# Altium schematic symbol library Resistors.SchLib: 196 symbols (part 1 of 2)
Pins are listed as number, name and electrical type; pins without a type are passive.

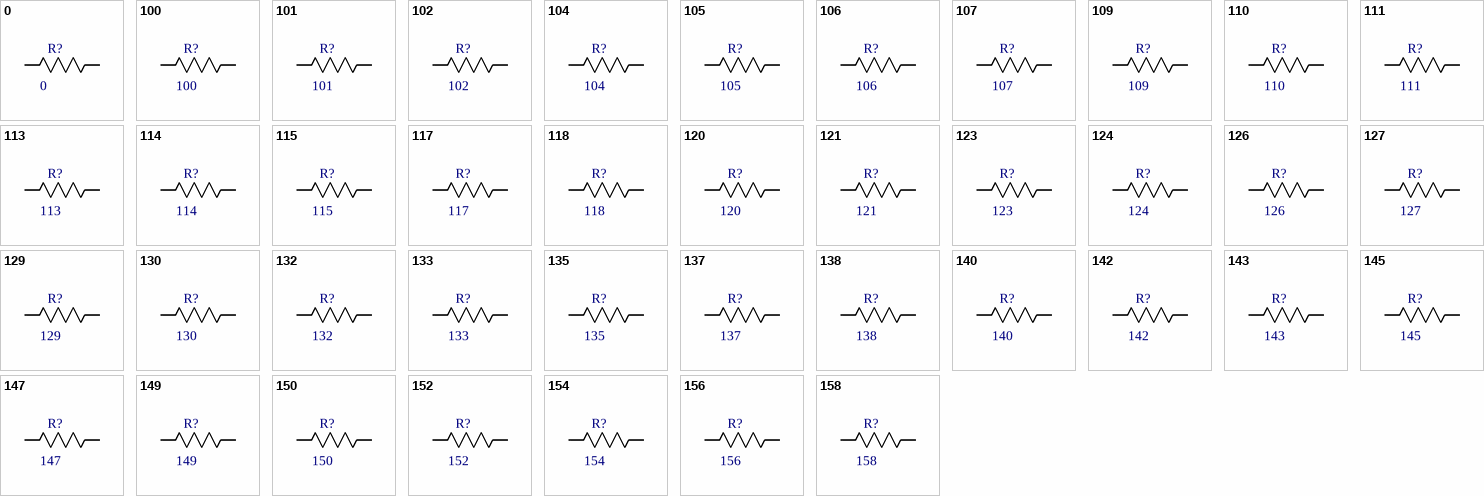
[diagram p0: symbols 0 to 158]

## 0
designator R?
Thick   Film   ChipResistors; Manufacturer_Part_Number: CRG0805F100K; Vendor: TE Connectivity; Built_By: EMA_UL_Team; SourceLibrary: Tyco_2012-01-31a; Tollerance: 1%; Power: 0.125W; RefDes: RefDes; Value: 0
footprint RES0805_CRG_TYCO_TYC
pins: 1, 2

## 100
designator R?, comment value 100  (hidden comment: 10)
Thick   Film   ChipResistors; Manufacturer_Part_Number: CRG0805F100K; Vendor: TE Connectivity; Built_By: EMA_UL_Team; SourceLibrary: Tyco_2012-01-31a; Tollerance: 1%; Power: 0.125W; RefDes: RefDes
footprint RES0805_CRG_TYCO_TYC
pins: 1, 2

## 101
designator R?, comment value 101  (hidden comment: 10)
Thick   Film   ChipResistors; Manufacturer_Part_Number: CRG0805F100K; Vendor: TE Connectivity; Built_By: EMA_UL_Team; SourceLibrary: Tyco_2012-01-31a; Tollerance: 1%; Power: 0.125W; RefDes: RefDes
footprint RES0805_CRG_TYCO_TYC
pins: 1, 2

## 102
designator R?, comment value 102  (hidden comment: 10)
Thick   Film   ChipResistors; Manufacturer_Part_Number: CRG0805F100K; Vendor: TE Connectivity; Built_By: EMA_UL_Team; SourceLibrary: Tyco_2012-01-31a; Tollerance: 1%; Power: 0.125W; RefDes: RefDes
footprint RES0805_CRG_TYCO_TYC
pins: 1, 2

## 104
designator R?, comment value 104  (hidden comment: 10)
Thick   Film   ChipResistors; Manufacturer_Part_Number: CRG0805F100K; Vendor: TE Connectivity; Built_By: EMA_UL_Team; SourceLibrary: Tyco_2012-01-31a; Tollerance: 1%; Power: 0.125W; RefDes: RefDes
footprint RES0805_CRG_TYCO_TYC
pins: 1, 2

## 105
designator R?, comment value 105  (hidden comment: 10)
Thick   Film   ChipResistors; Manufacturer_Part_Number: CRG0805F100K; Vendor: TE Connectivity; Built_By: EMA_UL_Team; SourceLibrary: Tyco_2012-01-31a; Tollerance: 1%; Power: 0.125W; RefDes: RefDes
footprint RES0805_CRG_TYCO_TYC
pins: 1, 2

## 106
designator R?, comment value 106  (hidden comment: 10)
Thick   Film   ChipResistors; Manufacturer_Part_Number: CRG0805F100K; Vendor: TE Connectivity; Built_By: EMA_UL_Team; SourceLibrary: Tyco_2012-01-31a; Tollerance: 1%; Power: 0.125W; RefDes: RefDes
footprint RES0805_CRG_TYCO_TYC
pins: 1, 2

## 107
designator R?, comment value 107  (hidden comment: 10)
Thick   Film   ChipResistors; Manufacturer_Part_Number: CRG0805F100K; Vendor: TE Connectivity; Built_By: EMA_UL_Team; SourceLibrary: Tyco_2012-01-31a; Tollerance: 1%; Power: 0.125W; RefDes: RefDes
footprint RES0805_CRG_TYCO_TYC
pins: 1, 2

## 109
designator R?, comment value 109  (hidden comment: 10)
Thick   Film   ChipResistors; Manufacturer_Part_Number: CRG0805F100K; Vendor: TE Connectivity; Built_By: EMA_UL_Team; SourceLibrary: Tyco_2012-01-31a; Tollerance: 1%; Power: 0.125W; RefDes: RefDes
footprint RES0805_CRG_TYCO_TYC
pins: 1, 2

## 110
designator R?, comment value 110  (hidden comment: 10)
Thick   Film   ChipResistors; Manufacturer_Part_Number: CRG0805F100K; Vendor: TE Connectivity; Built_By: EMA_UL_Team; SourceLibrary: Tyco_2012-01-31a; Tollerance: 1%; Power: 0.125W; RefDes: RefDes
footprint RES0805_CRG_TYCO_TYC
pins: 1, 2

## 111
designator R?, comment value 111  (hidden comment: 10)
Thick   Film   ChipResistors; Manufacturer_Part_Number: CRG0805F100K; Vendor: TE Connectivity; Built_By: EMA_UL_Team; SourceLibrary: Tyco_2012-01-31a; Tollerance: 1%; Power: 0.125W; RefDes: RefDes
footprint RES0805_CRG_TYCO_TYC
pins: 1, 2

## 113
designator R?, comment value 113  (hidden comment: 10)
Thick   Film   ChipResistors; Manufacturer_Part_Number: CRG0805F100K; Vendor: TE Connectivity; Built_By: EMA_UL_Team; SourceLibrary: Tyco_2012-01-31a; Tollerance: 1%; Power: 0.125W; RefDes: RefDes
footprint RES0805_CRG_TYCO_TYC
pins: 1, 2

## 114
designator R?, comment value 114  (hidden comment: 10)
Thick   Film   ChipResistors; Manufacturer_Part_Number: CRG0805F100K; Vendor: TE Connectivity; Built_By: EMA_UL_Team; SourceLibrary: Tyco_2012-01-31a; Tollerance: 1%; Power: 0.125W; RefDes: RefDes
footprint RES0805_CRG_TYCO_TYC
pins: 1, 2

## 115
designator R?, comment value 115  (hidden comment: 10)
Thick   Film   ChipResistors; Manufacturer_Part_Number: CRG0805F100K; Vendor: TE Connectivity; Built_By: EMA_UL_Team; SourceLibrary: Tyco_2012-01-31a; Tollerance: 1%; Power: 0.125W; RefDes: RefDes
footprint RES0805_CRG_TYCO_TYC
pins: 1, 2

## 117
designator R?, comment value 117  (hidden comment: 10)
Thick   Film   ChipResistors; Manufacturer_Part_Number: CRG0805F100K; Vendor: TE Connectivity; Built_By: EMA_UL_Team; SourceLibrary: Tyco_2012-01-31a; Tollerance: 1%; Power: 0.125W; RefDes: RefDes
footprint RES0805_CRG_TYCO_TYC
pins: 1, 2

## 118
designator R?, comment value 118  (hidden comment: 10)
Thick   Film   ChipResistors; Manufacturer_Part_Number: CRG0805F100K; Vendor: TE Connectivity; Built_By: EMA_UL_Team; SourceLibrary: Tyco_2012-01-31a; Tollerance: 1%; Power: 0.125W; RefDes: RefDes
footprint RES0805_CRG_TYCO_TYC
pins: 1, 2

## 120
designator R?, comment value 120  (hidden comment: 10)
Thick   Film   ChipResistors; Manufacturer_Part_Number: CRG0805F100K; Vendor: TE Connectivity; Built_By: EMA_UL_Team; SourceLibrary: Tyco_2012-01-31a; Tollerance: 1%; Power: 0.125W; RefDes: RefDes
footprint RES0805_CRG_TYCO_TYC
pins: 1, 2

## 121
designator R?, comment value 121  (hidden comment: 10)
Thick   Film   ChipResistors; Manufacturer_Part_Number: CRG0805F100K; Vendor: TE Connectivity; Built_By: EMA_UL_Team; SourceLibrary: Tyco_2012-01-31a; Tollerance: 1%; Power: 0.125W; RefDes: RefDes
footprint RES0805_CRG_TYCO_TYC
pins: 1, 2

## 123
designator R?, comment value 123  (hidden comment: 10)
Thick   Film   ChipResistors; Manufacturer_Part_Number: CRG0805F100K; Vendor: TE Connectivity; Built_By: EMA_UL_Team; SourceLibrary: Tyco_2012-01-31a; Tollerance: 1%; Power: 0.125W; RefDes: RefDes
footprint RES0805_CRG_TYCO_TYC
pins: 1, 2

## 124
designator R?, comment value 124  (hidden comment: 10)
Thick   Film   ChipResistors; Manufacturer_Part_Number: CRG0805F100K; Vendor: TE Connectivity; Built_By: EMA_UL_Team; SourceLibrary: Tyco_2012-01-31a; Tollerance: 1%; Power: 0.125W; RefDes: RefDes
footprint RES0805_CRG_TYCO_TYC
pins: 1, 2

## 126
designator R?, comment value 126  (hidden comment: 10)
Thick   Film   ChipResistors; Manufacturer_Part_Number: CRG0805F100K; Vendor: TE Connectivity; Built_By: EMA_UL_Team; SourceLibrary: Tyco_2012-01-31a; Tollerance: 1%; Power: 0.125W; RefDes: RefDes
footprint RES0805_CRG_TYCO_TYC
pins: 1, 2

## 127
designator R?, comment value 127  (hidden comment: 10)
Thick   Film   ChipResistors; Manufacturer_Part_Number: CRG0805F100K; Vendor: TE Connectivity; Built_By: EMA_UL_Team; SourceLibrary: Tyco_2012-01-31a; Tollerance: 1%; Power: 0.125W; RefDes: RefDes
footprint RES0805_CRG_TYCO_TYC
pins: 1, 2

## 129
designator R?, comment value 129  (hidden comment: 10)
Thick   Film   ChipResistors; Manufacturer_Part_Number: CRG0805F100K; Vendor: TE Connectivity; Built_By: EMA_UL_Team; SourceLibrary: Tyco_2012-01-31a; Tollerance: 1%; Power: 0.125W; RefDes: RefDes
footprint RES0805_CRG_TYCO_TYC
pins: 1, 2

## 130
designator R?, comment value 130  (hidden comment: 10)
Thick   Film   ChipResistors; Manufacturer_Part_Number: CRG0805F100K; Vendor: TE Connectivity; Built_By: EMA_UL_Team; SourceLibrary: Tyco_2012-01-31a; Tollerance: 1%; Power: 0.125W; RefDes: RefDes
footprint RES0805_CRG_TYCO_TYC
pins: 1, 2

## 132
designator R?, comment value 132  (hidden comment: 10)
Thick   Film   ChipResistors; Manufacturer_Part_Number: CRG0805F100K; Vendor: TE Connectivity; Built_By: EMA_UL_Team; SourceLibrary: Tyco_2012-01-31a; Tollerance: 1%; Power: 0.125W; RefDes: RefDes
footprint RES0805_CRG_TYCO_TYC
pins: 1, 2

## 133
designator R?, comment value 133  (hidden comment: 10)
Thick   Film   ChipResistors; Manufacturer_Part_Number: CRG0805F100K; Vendor: TE Connectivity; Built_By: EMA_UL_Team; SourceLibrary: Tyco_2012-01-31a; Tollerance: 1%; Power: 0.125W; RefDes: RefDes
footprint RES0805_CRG_TYCO_TYC
pins: 1, 2

## 135
designator R?, comment value 135  (hidden comment: 10)
Thick   Film   ChipResistors; Manufacturer_Part_Number: CRG0805F100K; Vendor: TE Connectivity; Built_By: EMA_UL_Team; SourceLibrary: Tyco_2012-01-31a; Tollerance: 1%; Power: 0.125W; RefDes: RefDes
footprint RES0805_CRG_TYCO_TYC
pins: 1, 2

## 137
designator R?, comment value 137  (hidden comment: 10)
Thick   Film   ChipResistors; Manufacturer_Part_Number: CRG0805F100K; Vendor: TE Connectivity; Built_By: EMA_UL_Team; SourceLibrary: Tyco_2012-01-31a; Tollerance: 1%; Power: 0.125W; RefDes: RefDes
footprint RES0805_CRG_TYCO_TYC
pins: 1, 2

## 138
designator R?, comment value 138  (hidden comment: 10)
Thick   Film   ChipResistors; Manufacturer_Part_Number: CRG0805F100K; Vendor: TE Connectivity; Built_By: EMA_UL_Team; SourceLibrary: Tyco_2012-01-31a; Tollerance: 1%; Power: 0.125W; RefDes: RefDes
footprint RES0805_CRG_TYCO_TYC
pins: 1, 2

## 140
designator R?, comment value 140  (hidden comment: 10)
Thick   Film   ChipResistors; Manufacturer_Part_Number: CRG0805F100K; Vendor: TE Connectivity; Built_By: EMA_UL_Team; SourceLibrary: Tyco_2012-01-31a; Tollerance: 1%; Power: 0.125W; RefDes: RefDes
footprint RES0805_CRG_TYCO_TYC
pins: 1, 2

## 142
designator R?, comment value 142  (hidden comment: 10)
Thick   Film   ChipResistors; Manufacturer_Part_Number: CRG0805F100K; Vendor: TE Connectivity; Built_By: EMA_UL_Team; SourceLibrary: Tyco_2012-01-31a; Tollerance: 1%; Power: 0.125W; RefDes: RefDes
footprint RES0805_CRG_TYCO_TYC
pins: 1, 2

## 143
designator R?, comment value 143  (hidden comment: 10)
Thick   Film   ChipResistors; Manufacturer_Part_Number: CRG0805F100K; Vendor: TE Connectivity; Built_By: EMA_UL_Team; SourceLibrary: Tyco_2012-01-31a; Tollerance: 1%; Power: 0.125W; RefDes: RefDes
footprint RES0805_CRG_TYCO_TYC
pins: 1, 2

## 145
designator R?, comment value 145  (hidden comment: 10)
Thick   Film   ChipResistors; Manufacturer_Part_Number: CRG0805F100K; Vendor: TE Connectivity; Built_By: EMA_UL_Team; SourceLibrary: Tyco_2012-01-31a; Tollerance: 1%; Power: 0.125W; RefDes: RefDes
footprint RES0805_CRG_TYCO_TYC
pins: 1, 2

## 147
designator R?, comment value 147  (hidden comment: 10)
Thick   Film   ChipResistors; Manufacturer_Part_Number: CRG0805F100K; Vendor: TE Connectivity; Built_By: EMA_UL_Team; SourceLibrary: Tyco_2012-01-31a; Tollerance: 1%; Power: 0.125W; RefDes: RefDes
footprint RES0805_CRG_TYCO_TYC
pins: 1, 2

## 149
designator R?, comment value 149  (hidden comment: 10)
Thick   Film   ChipResistors; Manufacturer_Part_Number: CRG0805F100K; Vendor: TE Connectivity; Built_By: EMA_UL_Team; SourceLibrary: Tyco_2012-01-31a; Tollerance: 1%; Power: 0.125W; RefDes: RefDes
footprint RES0805_CRG_TYCO_TYC
pins: 1, 2

## 150
designator R?, comment value 150  (hidden comment: 10)
Thick   Film   ChipResistors; Manufacturer_Part_Number: CRG0805F100K; Vendor: TE Connectivity; Built_By: EMA_UL_Team; SourceLibrary: Tyco_2012-01-31a; Tollerance: 1%; Power: 0.125W; RefDes: RefDes
footprint RES0805_CRG_TYCO_TYC
pins: 1, 2

## 152
designator R?, comment value 152  (hidden comment: 10)
Thick   Film   ChipResistors; Manufacturer_Part_Number: CRG0805F100K; Vendor: TE Connectivity; Built_By: EMA_UL_Team; SourceLibrary: Tyco_2012-01-31a; Tollerance: 1%; Power: 0.125W; RefDes: RefDes
footprint RES0805_CRG_TYCO_TYC
pins: 1, 2

## 154
designator R?, comment value 154  (hidden comment: 10)
Thick   Film   ChipResistors; Manufacturer_Part_Number: CRG0805F100K; Vendor: TE Connectivity; Built_By: EMA_UL_Team; SourceLibrary: Tyco_2012-01-31a; Tollerance: 1%; Power: 0.125W; RefDes: RefDes
footprint RES0805_CRG_TYCO_TYC
pins: 1, 2

## 156
designator R?, comment value 156  (hidden comment: 10)
Thick   Film   ChipResistors; Manufacturer_Part_Number: CRG0805F100K; Vendor: TE Connectivity; Built_By: EMA_UL_Team; SourceLibrary: Tyco_2012-01-31a; Tollerance: 1%; Power: 0.125W; RefDes: RefDes
footprint RES0805_CRG_TYCO_TYC
pins: 1, 2

## 158
designator R?, comment value 158  (hidden comment: 10)
Thick   Film   ChipResistors; Manufacturer_Part_Number: CRG0805F100K; Vendor: TE Connectivity; Built_By: EMA_UL_Team; SourceLibrary: Tyco_2012-01-31a; Tollerance: 1%; Power: 0.125W; RefDes: RefDes
footprint RES0805_CRG_TYCO_TYC
pins: 1, 2

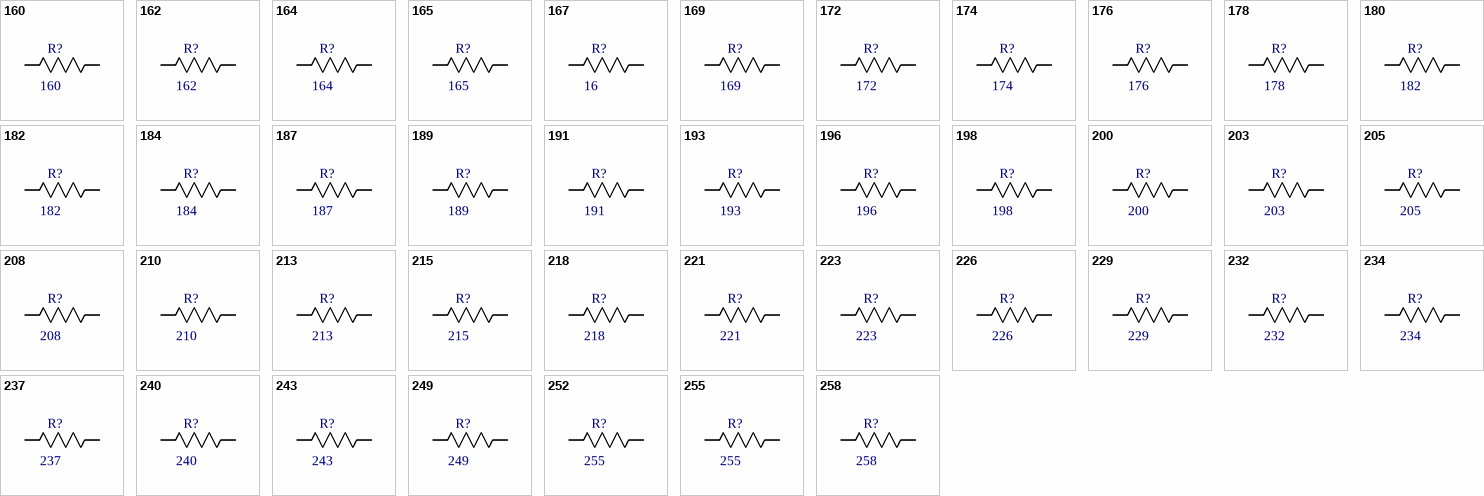
[diagram p1: symbols 160 to 258]

## 160
designator R?, comment value 160  (hidden comment: 10)
Thick   Film   ChipResistors; Manufacturer_Part_Number: CRG0805F100K; Vendor: TE Connectivity; Built_By: EMA_UL_Team; SourceLibrary: Tyco_2012-01-31a; Tollerance: 1%; Power: 0.125W; RefDes: RefDes
footprint RES0805_CRG_TYCO_TYC
pins: 1, 2

## 162
designator R?, comment value 162  (hidden comment: 10)
Thick   Film   ChipResistors; Manufacturer_Part_Number: CRG0805F100K; Vendor: TE Connectivity; Built_By: EMA_UL_Team; SourceLibrary: Tyco_2012-01-31a; Tollerance: 1%; Power: 0.125W; RefDes: RefDes
footprint RES0805_CRG_TYCO_TYC
pins: 1, 2

## 164
designator R?, comment value 164  (hidden comment: 10)
Thick   Film   ChipResistors; Manufacturer_Part_Number: CRG0805F100K; Vendor: TE Connectivity; Built_By: EMA_UL_Team; SourceLibrary: Tyco_2012-01-31a; Tollerance: 1%; Power: 0.125W; RefDes: RefDes
footprint RES0805_CRG_TYCO_TYC
pins: 1, 2

## 165
designator R?, comment value 165  (hidden comment: 10)
Thick   Film   ChipResistors; Manufacturer_Part_Number: CRG0805F100K; Vendor: TE Connectivity; Built_By: EMA_UL_Team; SourceLibrary: Tyco_2012-01-31a; Tollerance: 1%; Power: 0.125W; RefDes: RefDes
footprint RES0805_CRG_TYCO_TYC
pins: 1, 2

## 167
designator R?, comment value 16  (hidden comment: 10)
Thick   Film   ChipResistors; Manufacturer_Part_Number: CRG0805F100K; Vendor: TE Connectivity; Built_By: EMA_UL_Team; SourceLibrary: Tyco_2012-01-31a; Tollerance: 1%; Power: 0.125W; RefDes: RefDes
footprint RES0805_CRG_TYCO_TYC
pins: 1, 2

## 169
designator R?, comment value 169  (hidden comment: 10)
Thick   Film   ChipResistors; Manufacturer_Part_Number: CRG0805F100K; Vendor: TE Connectivity; Built_By: EMA_UL_Team; SourceLibrary: Tyco_2012-01-31a; Tollerance: 1%; Power: 0.125W; RefDes: RefDes
footprint RES0805_CRG_TYCO_TYC
pins: 1, 2

## 172
designator R?, comment value 172  (hidden comment: 10)
Thick   Film   ChipResistors; Manufacturer_Part_Number: CRG0805F100K; Vendor: TE Connectivity; Built_By: EMA_UL_Team; SourceLibrary: Tyco_2012-01-31a; Tollerance: 1%; Power: 0.125W; RefDes: RefDes
footprint RES0805_CRG_TYCO_TYC
pins: 1, 2

## 174
designator R?, comment value 174  (hidden comment: 10)
Thick   Film   ChipResistors; Manufacturer_Part_Number: CRG0805F100K; Vendor: TE Connectivity; Built_By: EMA_UL_Team; SourceLibrary: Tyco_2012-01-31a; Tollerance: 1%; Power: 0.125W; RefDes: RefDes
footprint RES0805_CRG_TYCO_TYC
pins: 1, 2

## 176
designator R?, comment value 176  (hidden comment: 10)
Thick   Film   ChipResistors; Manufacturer_Part_Number: CRG0805F100K; Vendor: TE Connectivity; Built_By: EMA_UL_Team; SourceLibrary: Tyco_2012-01-31a; Tollerance: 1%; Power: 0.125W; RefDes: RefDes
footprint RES0805_CRG_TYCO_TYC
pins: 1, 2

## 178
designator R?, comment value 178  (hidden comment: 10)
Thick   Film   ChipResistors; Manufacturer_Part_Number: CRG0805F100K; Vendor: TE Connectivity; Built_By: EMA_UL_Team; SourceLibrary: Tyco_2012-01-31a; Tollerance: 1%; Power: 0.125W; RefDes: RefDes
footprint RES0805_CRG_TYCO_TYC
pins: 1, 2

## 180
designator R?, comment value 182  (hidden comment: 10)
Thick   Film   ChipResistors; Manufacturer_Part_Number: CRG0805F100K; Vendor: TE Connectivity; Built_By: EMA_UL_Team; SourceLibrary: Tyco_2012-01-31a; Tollerance: 1%; Power: 0.125W; RefDes: RefDes
footprint RES0805_CRG_TYCO_TYC
pins: 1, 2

## 182
designator R?, comment value 182  (hidden comment: 10)
Thick   Film   ChipResistors; Manufacturer_Part_Number: CRG0805F100K; Vendor: TE Connectivity; Built_By: EMA_UL_Team; SourceLibrary: Tyco_2012-01-31a; Tollerance: 1%; Power: 0.125W; RefDes: RefDes
footprint RES0805_CRG_TYCO_TYC
pins: 1, 2

## 184
designator R?, comment value 184  (hidden comment: 10)
Thick   Film   ChipResistors; Manufacturer_Part_Number: CRG0805F100K; Vendor: TE Connectivity; Built_By: EMA_UL_Team; SourceLibrary: Tyco_2012-01-31a; Tollerance: 1%; Power: 0.125W; RefDes: RefDes
footprint RES0805_CRG_TYCO_TYC
pins: 1, 2

## 187
designator R?, comment value 187  (hidden comment: 10)
Thick   Film   ChipResistors; Manufacturer_Part_Number: CRG0805F100K; Vendor: TE Connectivity; Built_By: EMA_UL_Team; SourceLibrary: Tyco_2012-01-31a; Tollerance: 1%; Power: 0.125W; RefDes: RefDes
footprint RES0805_CRG_TYCO_TYC
pins: 1, 2

## 189
designator R?, comment value 189  (hidden comment: 10)
Thick   Film   ChipResistors; Manufacturer_Part_Number: CRG0805F100K; Vendor: TE Connectivity; Built_By: EMA_UL_Team; SourceLibrary: Tyco_2012-01-31a; Tollerance: 1%; Power: 0.125W; RefDes: RefDes
footprint RES0805_CRG_TYCO_TYC
pins: 1, 2

## 191
designator R?, comment value 191  (hidden comment: 10)
Thick   Film   ChipResistors; Manufacturer_Part_Number: CRG0805F100K; Vendor: TE Connectivity; Built_By: EMA_UL_Team; SourceLibrary: Tyco_2012-01-31a; Tollerance: 1%; Power: 0.125W; RefDes: RefDes
footprint RES0805_CRG_TYCO_TYC
pins: 1, 2

## 193
designator R?, comment value 193  (hidden comment: 10)
Thick   Film   ChipResistors; Manufacturer_Part_Number: CRG0805F100K; Vendor: TE Connectivity; Built_By: EMA_UL_Team; SourceLibrary: Tyco_2012-01-31a; Tollerance: 1%; Power: 0.125W; RefDes: RefDes
footprint RES0805_CRG_TYCO_TYC
pins: 1, 2

## 196
designator R?, comment value 196  (hidden comment: 10)
Thick   Film   ChipResistors; Manufacturer_Part_Number: CRG0805F100K; Vendor: TE Connectivity; Built_By: EMA_UL_Team; SourceLibrary: Tyco_2012-01-31a; Tollerance: 1%; Power: 0.125W; RefDes: RefDes
footprint RES0805_CRG_TYCO_TYC
pins: 1, 2

## 198
designator R?, comment value 198  (hidden comment: 10)
Thick   Film   ChipResistors; Manufacturer_Part_Number: CRG0805F100K; Vendor: TE Connectivity; Built_By: EMA_UL_Team; SourceLibrary: Tyco_2012-01-31a; Tollerance: 1%; Power: 0.125W; RefDes: RefDes
footprint RES0805_CRG_TYCO_TYC
pins: 1, 2

## 200
designator R?, comment value 200  (hidden comment: 10)
Thick   Film   ChipResistors; Manufacturer_Part_Number: CRG0805F100K; Vendor: TE Connectivity; Built_By: EMA_UL_Team; SourceLibrary: Tyco_2012-01-31a; Tollerance: 1%; Power: 0.125W; RefDes: RefDes
footprint RES0805_CRG_TYCO_TYC
pins: 1, 2

## 203
designator R?, comment value 203  (hidden comment: 10)
Thick   Film   ChipResistors; Manufacturer_Part_Number: CRG0805F100K; Vendor: TE Connectivity; Built_By: EMA_UL_Team; SourceLibrary: Tyco_2012-01-31a; Tollerance: 1%; Power: 0.125W; RefDes: RefDes
footprint RES0805_CRG_TYCO_TYC
pins: 1, 2

## 205
designator R?, comment value 205  (hidden comment: 10)
Thick   Film   ChipResistors; Manufacturer_Part_Number: CRG0805F100K; Vendor: TE Connectivity; Built_By: EMA_UL_Team; SourceLibrary: Tyco_2012-01-31a; Tollerance: 1%; Power: 0.125W; RefDes: RefDes
footprint RES0805_CRG_TYCO_TYC
pins: 1, 2

## 208
designator R?, comment value 208  (hidden comment: 10)
Thick   Film   ChipResistors; Manufacturer_Part_Number: CRG0805F100K; Vendor: TE Connectivity; Built_By: EMA_UL_Team; SourceLibrary: Tyco_2012-01-31a; Tollerance: 1%; Power: 0.125W; RefDes: RefDes
footprint RES0805_CRG_TYCO_TYC
pins: 1, 2

## 210
designator R?, comment value 210  (hidden comment: 10)
Thick   Film   ChipResistors; Manufacturer_Part_Number: CRG0805F100K; Vendor: TE Connectivity; Built_By: EMA_UL_Team; SourceLibrary: Tyco_2012-01-31a; Tollerance: 1%; Power: 0.125W; RefDes: RefDes
footprint RES0805_CRG_TYCO_TYC
pins: 1, 2

## 213
designator R?, comment value 213  (hidden comment: 10)
Thick   Film   ChipResistors; Manufacturer_Part_Number: CRG0805F100K; Vendor: TE Connectivity; Built_By: EMA_UL_Team; SourceLibrary: Tyco_2012-01-31a; Tollerance: 1%; Power: 0.125W; RefDes: RefDes
footprint RES0805_CRG_TYCO_TYC
pins: 1, 2

## 215
designator R?, comment value 215  (hidden comment: 10)
Thick   Film   ChipResistors; Manufacturer_Part_Number: CRG0805F100K; Vendor: TE Connectivity; Built_By: EMA_UL_Team; SourceLibrary: Tyco_2012-01-31a; Tollerance: 1%; Power: 0.125W; RefDes: RefDes
footprint RES0805_CRG_TYCO_TYC
pins: 1, 2

## 218
designator R?, comment value 218  (hidden comment: 10)
Thick   Film   ChipResistors; Manufacturer_Part_Number: CRG0805F100K; Vendor: TE Connectivity; Built_By: EMA_UL_Team; SourceLibrary: Tyco_2012-01-31a; Tollerance: 1%; Power: 0.125W; RefDes: RefDes
footprint RES0805_CRG_TYCO_TYC
pins: 1, 2

## 221
designator R?, comment value 221  (hidden comment: 10)
Thick   Film   ChipResistors; Manufacturer_Part_Number: CRG0805F100K; Vendor: TE Connectivity; Built_By: EMA_UL_Team; SourceLibrary: Tyco_2012-01-31a; Tollerance: 1%; Power: 0.125W; RefDes: RefDes
footprint RES0805_CRG_TYCO_TYC
pins: 1, 2

## 223
designator R?, comment value 223  (hidden comment: 10)
Thick   Film   ChipResistors; Manufacturer_Part_Number: CRG0805F100K; Vendor: TE Connectivity; Built_By: EMA_UL_Team; SourceLibrary: Tyco_2012-01-31a; Tollerance: 1%; Power: 0.125W; RefDes: RefDes
footprint RES0805_CRG_TYCO_TYC
pins: 1, 2

## 226
designator R?, comment value 226  (hidden comment: 10)
Thick   Film   ChipResistors; Manufacturer_Part_Number: CRG0805F100K; Vendor: TE Connectivity; Built_By: EMA_UL_Team; SourceLibrary: Tyco_2012-01-31a; Tollerance: 1%; Power: 0.125W; RefDes: RefDes
footprint RES0805_CRG_TYCO_TYC
pins: 1, 2

## 229
designator R?, comment value 229  (hidden comment: 10)
Thick   Film   ChipResistors; Manufacturer_Part_Number: CRG0805F100K; Vendor: TE Connectivity; Built_By: EMA_UL_Team; SourceLibrary: Tyco_2012-01-31a; Tollerance: 1%; Power: 0.125W; RefDes: RefDes
footprint RES0805_CRG_TYCO_TYC
pins: 1, 2

## 232
designator R?, comment value 232  (hidden comment: 10)
Thick   Film   ChipResistors; Manufacturer_Part_Number: CRG0805F100K; Vendor: TE Connectivity; Built_By: EMA_UL_Team; SourceLibrary: Tyco_2012-01-31a; Tollerance: 1%; Power: 0.125W; RefDes: RefDes
footprint RES0805_CRG_TYCO_TYC
pins: 1, 2

## 234
designator R?, comment value 234  (hidden comment: 10)
Thick   Film   ChipResistors; Manufacturer_Part_Number: CRG0805F100K; Vendor: TE Connectivity; Built_By: EMA_UL_Team; SourceLibrary: Tyco_2012-01-31a; Tollerance: 1%; Power: 0.125W; RefDes: RefDes
footprint RES0805_CRG_TYCO_TYC
pins: 1, 2

## 237
designator R?, comment value 237  (hidden comment: 10)
Thick   Film   ChipResistors; Manufacturer_Part_Number: CRG0805F100K; Vendor: TE Connectivity; Built_By: EMA_UL_Team; SourceLibrary: Tyco_2012-01-31a; Tollerance: 1%; Power: 0.125W; RefDes: RefDes
footprint RES0805_CRG_TYCO_TYC
pins: 1, 2

## 240
designator R?, comment value 240  (hidden comment: 10)
Thick   Film   ChipResistors; Manufacturer_Part_Number: CRG0805F100K; Vendor: TE Connectivity; Built_By: EMA_UL_Team; SourceLibrary: Tyco_2012-01-31a; Tollerance: 1%; Power: 0.125W; RefDes: RefDes
footprint RES0805_CRG_TYCO_TYC
pins: 1, 2

## 243
designator R?, comment value 243  (hidden comment: 10)
Thick   Film   ChipResistors; Manufacturer_Part_Number: CRG0805F100K; Vendor: TE Connectivity; Built_By: EMA_UL_Team; SourceLibrary: Tyco_2012-01-31a; Tollerance: 1%; Power: 0.125W; RefDes: RefDes
footprint RES0805_CRG_TYCO_TYC
pins: 1, 2

## 249
designator R?, comment value 249  (hidden comment: 10)
Thick   Film   ChipResistors; Manufacturer_Part_Number: CRG0805F100K; Vendor: TE Connectivity; Built_By: EMA_UL_Team; SourceLibrary: Tyco_2012-01-31a; Tollerance: 1%; Power: 0.125W; RefDes: RefDes
footprint RES0805_CRG_TYCO_TYC
pins: 1, 2

## 252
designator R?, comment value 255  (hidden comment: 10)
Thick   Film   ChipResistors; Manufacturer_Part_Number: CRG0805F100K; Vendor: TE Connectivity; Built_By: EMA_UL_Team; SourceLibrary: Tyco_2012-01-31a; Tollerance: 1%; Power: 0.125W; RefDes: RefDes
footprint RES0805_CRG_TYCO_TYC
pins: 1, 2

## 255
designator R?, comment value 255  (hidden comment: 10)
Thick   Film   ChipResistors; Manufacturer_Part_Number: CRG0805F100K; Vendor: TE Connectivity; Built_By: EMA_UL_Team; SourceLibrary: Tyco_2012-01-31a; Tollerance: 1%; Power: 0.125W; RefDes: RefDes
footprint RES0805_CRG_TYCO_TYC
pins: 1, 2

## 258
designator R?, comment value 258  (hidden comment: 10)
Thick   Film   ChipResistors; Manufacturer_Part_Number: CRG0805F100K; Vendor: TE Connectivity; Built_By: EMA_UL_Team; SourceLibrary: Tyco_2012-01-31a; Tollerance: 1%; Power: 0.125W; RefDes: RefDes
footprint RES0805_CRG_TYCO_TYC
pins: 1, 2

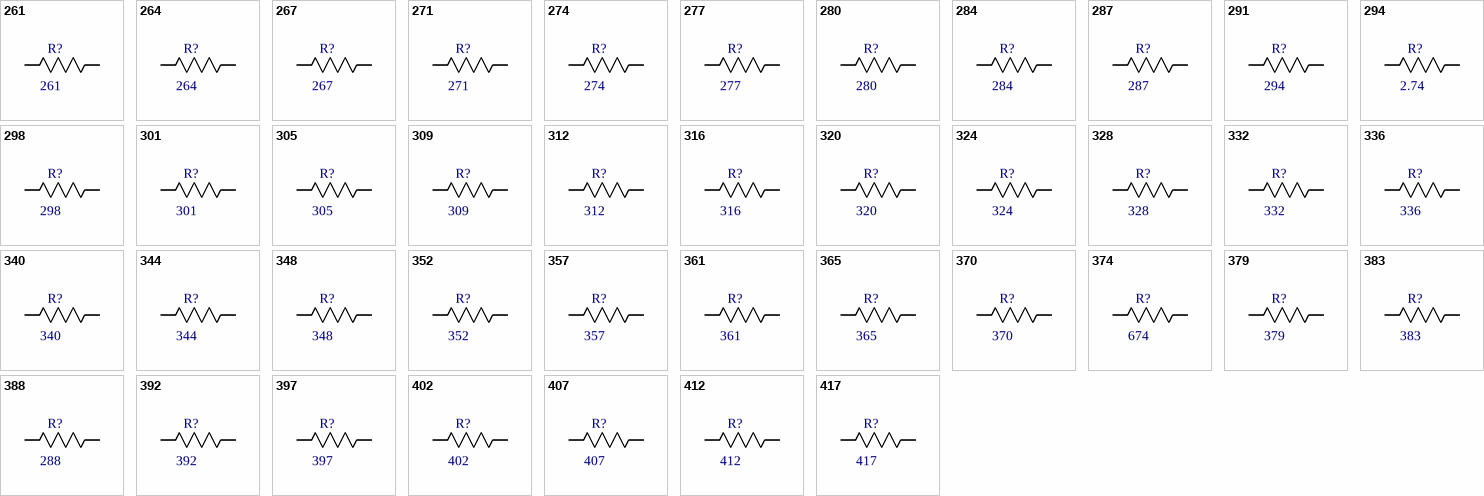
[diagram p2: symbols 261 to 417]

## 261
designator R?, comment value 261  (hidden comment: 10)
Thick   Film   ChipResistors; Manufacturer_Part_Number: CRG0805F100K; Vendor: TE Connectivity; Built_By: EMA_UL_Team; SourceLibrary: Tyco_2012-01-31a; Tollerance: 1%; Power: 0.125W; RefDes: RefDes
footprint RES0805_CRG_TYCO_TYC
pins: 1, 2

## 264
designator R?, comment value 264  (hidden comment: 10)
Thick   Film   ChipResistors; Manufacturer_Part_Number: CRG0805F100K; Vendor: TE Connectivity; Built_By: EMA_UL_Team; SourceLibrary: Tyco_2012-01-31a; Tollerance: 1%; Power: 0.125W; RefDes: RefDes
footprint RES0805_CRG_TYCO_TYC
pins: 1, 2

## 267
designator R?, comment value 267  (hidden comment: 10)
Thick   Film   ChipResistors; Manufacturer_Part_Number: CRG0805F100K; Vendor: TE Connectivity; Built_By: EMA_UL_Team; SourceLibrary: Tyco_2012-01-31a; Tollerance: 1%; Power: 0.125W; RefDes: RefDes
footprint RES0805_CRG_TYCO_TYC
pins: 1, 2

## 271
designator R?, comment value 271  (hidden comment: 10)
Thick   Film   ChipResistors; Manufacturer_Part_Number: CRG0805F100K; Vendor: TE Connectivity; Built_By: EMA_UL_Team; SourceLibrary: Tyco_2012-01-31a; Tollerance: 1%; Power: 0.125W; RefDes: RefDes
footprint RES0805_CRG_TYCO_TYC
pins: 1, 2

## 274
designator R?, comment value 274  (hidden comment: 10)
Thick   Film   ChipResistors; Manufacturer_Part_Number: CRG0805F100K; Vendor: TE Connectivity; Built_By: EMA_UL_Team; SourceLibrary: Tyco_2012-01-31a; Tollerance: 1%; Power: 0.125W; RefDes: RefDes
footprint RES0805_CRG_TYCO_TYC
pins: 1, 2

## 277
designator R?, comment value 277  (hidden comment: 10)
Thick   Film   ChipResistors; Manufacturer_Part_Number: CRG0805F100K; Vendor: TE Connectivity; Built_By: EMA_UL_Team; SourceLibrary: Tyco_2012-01-31a; Tollerance: 1%; Power: 0.125W; RefDes: RefDes
footprint RES0805_CRG_TYCO_TYC
pins: 1, 2

## 280
designator R?, comment value 280  (hidden comment: 10)
Thick   Film   ChipResistors; Manufacturer_Part_Number: CRG0805F100K; Vendor: TE Connectivity; Built_By: EMA_UL_Team; SourceLibrary: Tyco_2012-01-31a; Tollerance: 1%; Power: 0.125W; RefDes: RefDes
footprint RES0805_CRG_TYCO_TYC
pins: 1, 2

## 284
designator R?, comment value 284  (hidden comment: 10)
Thick   Film   ChipResistors; Manufacturer_Part_Number: CRG0805F100K; Vendor: TE Connectivity; Built_By: EMA_UL_Team; SourceLibrary: Tyco_2012-01-31a; Tollerance: 1%; Power: 0.125W; RefDes: RefDes
footprint RES0805_CRG_TYCO_TYC
pins: 1, 2

## 287
designator R?, comment value 287  (hidden comment: 10)
Thick   Film   ChipResistors; Manufacturer_Part_Number: CRG0805F100K; Vendor: TE Connectivity; Built_By: EMA_UL_Team; SourceLibrary: Tyco_2012-01-31a; Tollerance: 1%; Power: 0.125W; RefDes: RefDes
footprint RES0805_CRG_TYCO_TYC
pins: 1, 2

## 291
designator R?, comment value 294  (hidden comment: 10)
Thick   Film   ChipResistors; Manufacturer_Part_Number: CRG0805F100K; Vendor: TE Connectivity; Built_By: EMA_UL_Team; SourceLibrary: Tyco_2012-01-31a; Tollerance: 1%; Power: 0.125W; RefDes: RefDes
footprint RES0805_CRG_TYCO_TYC
pins: 1, 2

## 294
designator R?, comment value 2.74  (hidden comment: 10)
Thick   Film   ChipResistors; Manufacturer_Part_Number: CRG0805F100K; Vendor: TE Connectivity; Built_By: EMA_UL_Team; SourceLibrary: Tyco_2012-01-31a; Tollerance: 1%; Power: 0.125W; RefDes: RefDes
footprint RES0805_CRG_TYCO_TYC
pins: 1, 2

## 298
designator R?, comment value 298  (hidden comment: 10)
Thick   Film   ChipResistors; Manufacturer_Part_Number: CRG0805F100K; Vendor: TE Connectivity; Built_By: EMA_UL_Team; SourceLibrary: Tyco_2012-01-31a; Tollerance: 1%; Power: 0.125W; RefDes: RefDes
footprint RES0805_CRG_TYCO_TYC
pins: 1, 2

## 301
designator R?, comment value 301  (hidden comment: 10)
Thick   Film   ChipResistors; Manufacturer_Part_Number: CRG0805F100K; Vendor: TE Connectivity; Built_By: EMA_UL_Team; SourceLibrary: Tyco_2012-01-31a; Tollerance: 1%; Power: 0.125W; RefDes: RefDes
footprint RES0805_CRG_TYCO_TYC
pins: 1, 2

## 305
designator R?, comment value 305  (hidden comment: 10)
Thick   Film   ChipResistors; Manufacturer_Part_Number: CRG0805F100K; Vendor: TE Connectivity; Built_By: EMA_UL_Team; SourceLibrary: Tyco_2012-01-31a; Tollerance: 1%; Power: 0.125W; RefDes: RefDes
footprint RES0805_CRG_TYCO_TYC
pins: 1, 2

## 309
designator R?, comment value 309  (hidden comment: 10)
Thick   Film   ChipResistors; Manufacturer_Part_Number: CRG0805F100K; Vendor: TE Connectivity; Built_By: EMA_UL_Team; SourceLibrary: Tyco_2012-01-31a; Tollerance: 1%; Power: 0.125W; RefDes: RefDes
footprint RES0805_CRG_TYCO_TYC
pins: 1, 2

## 312
designator R?, comment value 312  (hidden comment: 10)
Thick   Film   ChipResistors; Manufacturer_Part_Number: CRG0805F100K; Vendor: TE Connectivity; Built_By: EMA_UL_Team; SourceLibrary: Tyco_2012-01-31a; Tollerance: 1%; Power: 0.125W; RefDes: RefDes
footprint RES0805_CRG_TYCO_TYC
pins: 1, 2

## 316
designator R?, comment value 316  (hidden comment: 10)
Thick   Film   ChipResistors; Manufacturer_Part_Number: CRG0805F100K; Vendor: TE Connectivity; Built_By: EMA_UL_Team; SourceLibrary: Tyco_2012-01-31a; Tollerance: 1%; Power: 0.125W; RefDes: RefDes
footprint RES0805_CRG_TYCO_TYC
pins: 1, 2

## 320
designator R?, comment value 320  (hidden comment: 10)
Thick   Film   ChipResistors; Manufacturer_Part_Number: CRG0805F100K; Vendor: TE Connectivity; Built_By: EMA_UL_Team; SourceLibrary: Tyco_2012-01-31a; Tollerance: 1%; Power: 0.125W; RefDes: RefDes
footprint RES0805_CRG_TYCO_TYC
pins: 1, 2

## 324
designator R?, comment value 324  (hidden comment: 10)
Thick   Film   ChipResistors; Manufacturer_Part_Number: CRG0805F100K; Vendor: TE Connectivity; Built_By: EMA_UL_Team; SourceLibrary: Tyco_2012-01-31a; Tollerance: 1%; Power: 0.125W; RefDes: RefDes
footprint RES0805_CRG_TYCO_TYC
pins: 1, 2

## 328
designator R?, comment value 328  (hidden comment: 10)
Thick   Film   ChipResistors; Manufacturer_Part_Number: CRG0805F100K; Vendor: TE Connectivity; Built_By: EMA_UL_Team; SourceLibrary: Tyco_2012-01-31a; Tollerance: 1%; Power: 0.125W; RefDes: RefDes
footprint RES0805_CRG_TYCO_TYC
pins: 1, 2

## 332
designator R?, comment value 332  (hidden comment: 10)
Thick   Film   ChipResistors; Manufacturer_Part_Number: CRG0805F100K; Vendor: TE Connectivity; Built_By: EMA_UL_Team; SourceLibrary: Tyco_2012-01-31a; Tollerance: 1%; Power: 0.125W; RefDes: RefDes
footprint RES0805_CRG_TYCO_TYC
pins: 1, 2

## 336
designator R?, comment value 336  (hidden comment: 10)
Thick   Film   ChipResistors; Manufacturer_Part_Number: CRG0805F100K; Vendor: TE Connectivity; Built_By: EMA_UL_Team; SourceLibrary: Tyco_2012-01-31a; Tollerance: 1%; Power: 0.125W; RefDes: RefDes
footprint RES0805_CRG_TYCO_TYC
pins: 1, 2

## 340
designator R?, comment value 340  (hidden comment: 10)
Thick   Film   ChipResistors; Manufacturer_Part_Number: CRG0805F100K; Vendor: TE Connectivity; Built_By: EMA_UL_Team; SourceLibrary: Tyco_2012-01-31a; Tollerance: 1%; Power: 0.125W; RefDes: RefDes
footprint RES0805_CRG_TYCO_TYC
pins: 1, 2

## 344
designator R?, comment value 344  (hidden comment: 10)
Thick   Film   ChipResistors; Manufacturer_Part_Number: CRG0805F100K; Vendor: TE Connectivity; Built_By: EMA_UL_Team; SourceLibrary: Tyco_2012-01-31a; Tollerance: 1%; Power: 0.125W; RefDes: RefDes
footprint RES0805_CRG_TYCO_TYC
pins: 1, 2

## 348
designator R?, comment value 348  (hidden comment: 10)
Thick   Film   ChipResistors; Manufacturer_Part_Number: CRG0805F100K; Vendor: TE Connectivity; Built_By: EMA_UL_Team; SourceLibrary: Tyco_2012-01-31a; Tollerance: 1%; Power: 0.125W; RefDes: RefDes
footprint RES0805_CRG_TYCO_TYC
pins: 1, 2

## 352
designator R?, comment value 352  (hidden comment: 10)
Thick   Film   ChipResistors; Manufacturer_Part_Number: CRG0805F100K; Vendor: TE Connectivity; Built_By: EMA_UL_Team; SourceLibrary: Tyco_2012-01-31a; Tollerance: 1%; Power: 0.125W; RefDes: RefDes
footprint RES0805_CRG_TYCO_TYC
pins: 1, 2

## 357
designator R?, comment value 357  (hidden comment: 10)
Thick   Film   ChipResistors; Manufacturer_Part_Number: CRG0805F100K; Vendor: TE Connectivity; Built_By: EMA_UL_Team; SourceLibrary: Tyco_2012-01-31a; Tollerance: 1%; Power: 0.125W; RefDes: RefDes
footprint RES0805_CRG_TYCO_TYC
pins: 1, 2

## 361
designator R?, comment value 361  (hidden comment: 10)
Thick   Film   ChipResistors; Manufacturer_Part_Number: CRG0805F100K; Vendor: TE Connectivity; Built_By: EMA_UL_Team; SourceLibrary: Tyco_2012-01-31a; Tollerance: 1%; Power: 0.125W; RefDes: RefDes
footprint RES0805_CRG_TYCO_TYC
pins: 1, 2

## 365
designator R?, comment value 365  (hidden comment: 10)
Thick   Film   ChipResistors; Manufacturer_Part_Number: CRG0805F100K; Vendor: TE Connectivity; Built_By: EMA_UL_Team; SourceLibrary: Tyco_2012-01-31a; Tollerance: 1%; Power: 0.125W; RefDes: RefDes
footprint RES0805_CRG_TYCO_TYC
pins: 1, 2

## 370
designator R?, comment value 370  (hidden comment: 10)
Thick   Film   ChipResistors; Manufacturer_Part_Number: CRG0805F100K; Vendor: TE Connectivity; Built_By: EMA_UL_Team; SourceLibrary: Tyco_2012-01-31a; Tollerance: 1%; Power: 0.125W; RefDes: RefDes
footprint RES0805_CRG_TYCO_TYC
pins: 1, 2

## 374
designator R?, comment value 674  (hidden comment: 10)
Thick   Film   ChipResistors; Manufacturer_Part_Number: CRG0805F100K; Vendor: TE Connectivity; Built_By: EMA_UL_Team; SourceLibrary: Tyco_2012-01-31a; Tollerance: 1%; Power: 0.125W; RefDes: RefDes
footprint RES0805_CRG_TYCO_TYC
pins: 1, 2

## 379
designator R?, comment value 379  (hidden comment: 10)
Thick   Film   ChipResistors; Manufacturer_Part_Number: CRG0805F100K; Vendor: TE Connectivity; Built_By: EMA_UL_Team; SourceLibrary: Tyco_2012-01-31a; Tollerance: 1%; Power: 0.125W; RefDes: RefDes
footprint RES0805_CRG_TYCO_TYC
pins: 1, 2

## 383
designator R?, comment value 383  (hidden comment: 10)
Thick   Film   ChipResistors; Manufacturer_Part_Number: CRG0805F100K; Vendor: TE Connectivity; Built_By: EMA_UL_Team; SourceLibrary: Tyco_2012-01-31a; Tollerance: 1%; Power: 0.125W; RefDes: RefDes
footprint RES0805_CRG_TYCO_TYC
pins: 1, 2

## 388
designator R?, comment value 288  (hidden comment: 10)
Thick   Film   ChipResistors; Manufacturer_Part_Number: CRG0805F100K; Vendor: TE Connectivity; Built_By: EMA_UL_Team; SourceLibrary: Tyco_2012-01-31a; Tollerance: 1%; Power: 0.125W; RefDes: RefDes
footprint RES0805_CRG_TYCO_TYC
pins: 1, 2

## 392
designator R?, comment value 392  (hidden comment: 10)
Thick   Film   ChipResistors; Manufacturer_Part_Number: CRG0805F100K; Vendor: TE Connectivity; Built_By: EMA_UL_Team; SourceLibrary: Tyco_2012-01-31a; Tollerance: 1%; Power: 0.125W; RefDes: RefDes
footprint RES0805_CRG_TYCO_TYC
pins: 1, 2

## 397
designator R?, comment value 397  (hidden comment: 10)
Thick   Film   ChipResistors; Manufacturer_Part_Number: CRG0805F100K; Vendor: TE Connectivity; Built_By: EMA_UL_Team; SourceLibrary: Tyco_2012-01-31a; Tollerance: 1%; Power: 0.125W; RefDes: RefDes
footprint RES0805_CRG_TYCO_TYC
pins: 1, 2

## 402
designator R?, comment value 402  (hidden comment: 10)
Thick   Film   ChipResistors; Manufacturer_Part_Number: CRG0805F100K; Vendor: TE Connectivity; Built_By: EMA_UL_Team; SourceLibrary: Tyco_2012-01-31a; Tollerance: 1%; Power: 0.125W; RefDes: RefDes
footprint RES0805_CRG_TYCO_TYC
pins: 1, 2

## 407
designator R?, comment value 407  (hidden comment: 10)
Thick   Film   ChipResistors; Manufacturer_Part_Number: CRG0805F100K; Vendor: TE Connectivity; Built_By: EMA_UL_Team; SourceLibrary: Tyco_2012-01-31a; Tollerance: 1%; Power: 0.125W; RefDes: RefDes
footprint RES0805_CRG_TYCO_TYC
pins: 1, 2

## 412
designator R?, comment value 412  (hidden comment: 10)
Thick   Film   ChipResistors; Manufacturer_Part_Number: CRG0805F100K; Vendor: TE Connectivity; Built_By: EMA_UL_Team; SourceLibrary: Tyco_2012-01-31a; Tollerance: 1%; Power: 0.125W; RefDes: RefDes
footprint RES0805_CRG_TYCO_TYC
pins: 1, 2

## 417
designator R?, comment value 417  (hidden comment: 10)
Thick   Film   ChipResistors; Manufacturer_Part_Number: CRG0805F100K; Vendor: TE Connectivity; Built_By: EMA_UL_Team; SourceLibrary: Tyco_2012-01-31a; Tollerance: 1%; Power: 0.125W; RefDes: RefDes
footprint RES0805_CRG_TYCO_TYC
pins: 1, 2

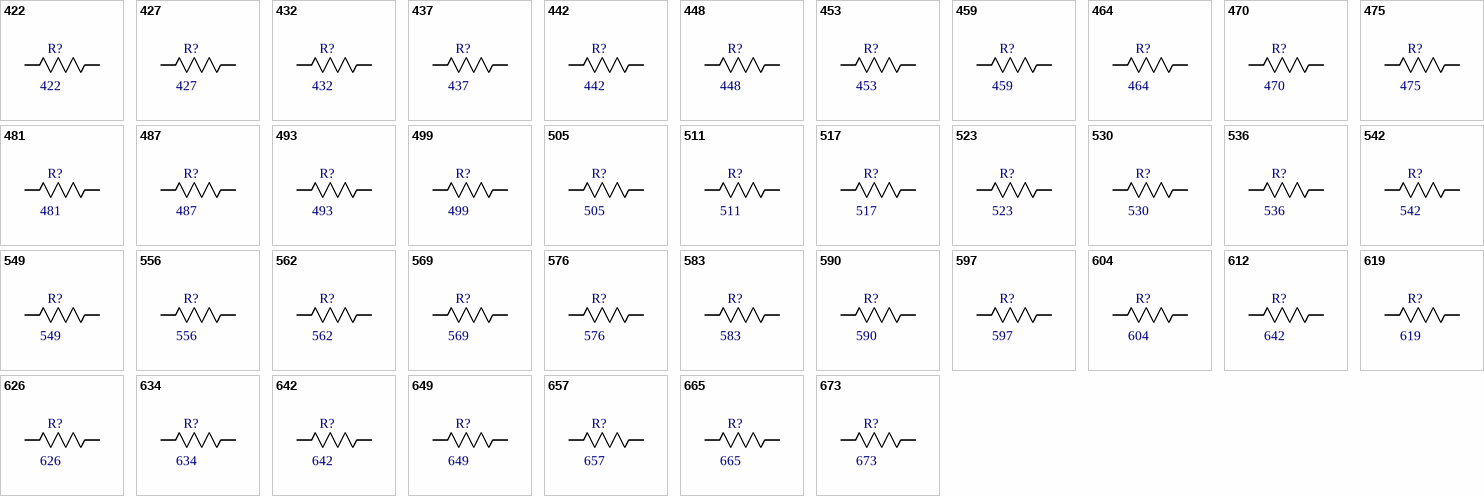
[diagram p3: symbols 422 to 673]

## 422
designator R?, comment value 422  (hidden comment: 10)
Thick   Film   ChipResistors; Manufacturer_Part_Number: CRG0805F100K; Vendor: TE Connectivity; Built_By: EMA_UL_Team; SourceLibrary: Tyco_2012-01-31a; Tollerance: 1%; Power: 0.125W; RefDes: RefDes
footprint RES0805_CRG_TYCO_TYC
pins: 1, 2

## 427
designator R?, comment value 427  (hidden comment: 10)
Thick   Film   ChipResistors; Manufacturer_Part_Number: CRG0805F100K; Vendor: TE Connectivity; Built_By: EMA_UL_Team; SourceLibrary: Tyco_2012-01-31a; Tollerance: 1%; Power: 0.125W; RefDes: RefDes
footprint RES0805_CRG_TYCO_TYC
pins: 1, 2

## 432
designator R?, comment value 432  (hidden comment: 10)
Thick   Film   ChipResistors; Manufacturer_Part_Number: CRG0805F100K; Vendor: TE Connectivity; Built_By: EMA_UL_Team; SourceLibrary: Tyco_2012-01-31a; Tollerance: 1%; Power: 0.125W; RefDes: RefDes
footprint RES0805_CRG_TYCO_TYC
pins: 1, 2

## 437
designator R?, comment value 437  (hidden comment: 10)
Thick   Film   ChipResistors; Manufacturer_Part_Number: CRG0805F100K; Vendor: TE Connectivity; Built_By: EMA_UL_Team; SourceLibrary: Tyco_2012-01-31a; Tollerance: 1%; Power: 0.125W; RefDes: RefDes
footprint RES0805_CRG_TYCO_TYC
pins: 1, 2

## 442
designator R?, comment value 442  (hidden comment: 10)
Thick   Film   ChipResistors; Manufacturer_Part_Number: CRG0805F100K; Vendor: TE Connectivity; Built_By: EMA_UL_Team; SourceLibrary: Tyco_2012-01-31a; Tollerance: 1%; Power: 0.125W; RefDes: RefDes
footprint RES0805_CRG_TYCO_TYC
pins: 1, 2

## 448
designator R?, comment value 448  (hidden comment: 10)
Thick   Film   ChipResistors; Manufacturer_Part_Number: CRG0805F100K; Vendor: TE Connectivity; Built_By: EMA_UL_Team; SourceLibrary: Tyco_2012-01-31a; Tollerance: 1%; Power: 0.125W; RefDes: RefDes
footprint RES0805_CRG_TYCO_TYC
pins: 1, 2

## 453
designator R?, comment value 453  (hidden comment: 10)
Thick   Film   ChipResistors; Manufacturer_Part_Number: CRG0805F100K; Vendor: TE Connectivity; Built_By: EMA_UL_Team; SourceLibrary: Tyco_2012-01-31a; Tollerance: 1%; Power: 0.125W; RefDes: RefDes
footprint RES0805_CRG_TYCO_TYC
pins: 1, 2

## 459
designator R?, comment value 459  (hidden comment: 10)
Thick   Film   ChipResistors; Manufacturer_Part_Number: CRG0805F100K; Vendor: TE Connectivity; Built_By: EMA_UL_Team; SourceLibrary: Tyco_2012-01-31a; Tollerance: 1%; Power: 0.125W; RefDes: RefDes
footprint RES0805_CRG_TYCO_TYC
pins: 1, 2

## 464
designator R?, comment value 464  (hidden comment: 10)
Thick   Film   ChipResistors; Manufacturer_Part_Number: CRG0805F100K; Vendor: TE Connectivity; Built_By: EMA_UL_Team; SourceLibrary: Tyco_2012-01-31a; Tollerance: 1%; Power: 0.125W; RefDes: RefDes
footprint RES0805_CRG_TYCO_TYC
pins: 1, 2

## 470
designator R?, comment value 470  (hidden comment: 10)
Thick   Film   ChipResistors; Manufacturer_Part_Number: CRG0805F100K; Vendor: TE Connectivity; Built_By: EMA_UL_Team; SourceLibrary: Tyco_2012-01-31a; Tollerance: 1%; Power: 0.125W; RefDes: RefDes
footprint RES0805_CRG_TYCO_TYC
pins: 1, 2

## 475
designator R?, comment value 475  (hidden comment: 10)
Thick   Film   ChipResistors; Manufacturer_Part_Number: CRG0805F100K; Vendor: TE Connectivity; Built_By: EMA_UL_Team; SourceLibrary: Tyco_2012-01-31a; Tollerance: 1%; Power: 0.125W; RefDes: RefDes
footprint RES0805_CRG_TYCO_TYC
pins: 1, 2

## 481
designator R?, comment value 481  (hidden comment: 10)
Thick   Film   ChipResistors; Manufacturer_Part_Number: CRG0805F100K; Vendor: TE Connectivity; Built_By: EMA_UL_Team; SourceLibrary: Tyco_2012-01-31a; Tollerance: 1%; Power: 0.125W; RefDes: RefDes
footprint RES0805_CRG_TYCO_TYC
pins: 1, 2

## 487
designator R?, comment value 487  (hidden comment: 10)
Thick   Film   ChipResistors; Manufacturer_Part_Number: CRG0805F100K; Vendor: TE Connectivity; Built_By: EMA_UL_Team; SourceLibrary: Tyco_2012-01-31a; Tollerance: 1%; Power: 0.125W; RefDes: RefDes
footprint RES0805_CRG_TYCO_TYC
pins: 1, 2

## 493
designator R?, comment value 493  (hidden comment: 10)
Thick   Film   ChipResistors; Manufacturer_Part_Number: CRG0805F100K; Vendor: TE Connectivity; Built_By: EMA_UL_Team; SourceLibrary: Tyco_2012-01-31a; Tollerance: 1%; Power: 0.125W; RefDes: RefDes
footprint RES0805_CRG_TYCO_TYC
pins: 1, 2

## 499
designator R?, comment value 499  (hidden comment: 10)
Thick   Film   ChipResistors; Manufacturer_Part_Number: CRG0805F100K; Vendor: TE Connectivity; Built_By: EMA_UL_Team; SourceLibrary: Tyco_2012-01-31a; Tollerance: 1%; Power: 0.125W; RefDes: RefDes
footprint RES0805_CRG_TYCO_TYC
pins: 1, 2

## 505
designator R?, comment value 505  (hidden comment: 10)
Thick   Film   ChipResistors; Manufacturer_Part_Number: CRG0805F100K; Vendor: TE Connectivity; Built_By: EMA_UL_Team; SourceLibrary: Tyco_2012-01-31a; Tollerance: 1%; Power: 0.125W; RefDes: RefDes
footprint RES0805_CRG_TYCO_TYC
pins: 1, 2

## 511
designator R?, comment value 511  (hidden comment: 10)
Thick   Film   ChipResistors; Manufacturer_Part_Number: CRG0805F100K; Vendor: TE Connectivity; Built_By: EMA_UL_Team; SourceLibrary: Tyco_2012-01-31a; Tollerance: 1%; Power: 0.125W; RefDes: RefDes
footprint RES0805_CRG_TYCO_TYC
pins: 1, 2

## 517
designator R?, comment value 517  (hidden comment: 10)
Thick   Film   ChipResistors; Manufacturer_Part_Number: CRG0805F100K; Vendor: TE Connectivity; Built_By: EMA_UL_Team; SourceLibrary: Tyco_2012-01-31a; Tollerance: 1%; Power: 0.125W; RefDes: RefDes
footprint RES0805_CRG_TYCO_TYC
pins: 1, 2

## 523
designator R?, comment value 523  (hidden comment: 10)
Thick   Film   ChipResistors; Manufacturer_Part_Number: CRG0805F100K; Vendor: TE Connectivity; Built_By: EMA_UL_Team; SourceLibrary: Tyco_2012-01-31a; Tollerance: 1%; Power: 0.125W; RefDes: RefDes
footprint RES0805_CRG_TYCO_TYC
pins: 1, 2

## 530
designator R?, comment value 530  (hidden comment: 10)
Thick   Film   ChipResistors; Manufacturer_Part_Number: CRG0805F100K; Vendor: TE Connectivity; Built_By: EMA_UL_Team; SourceLibrary: Tyco_2012-01-31a; Tollerance: 1%; Power: 0.125W; RefDes: RefDes
footprint RES0805_CRG_TYCO_TYC
pins: 1, 2

## 536
designator R?, comment value 536  (hidden comment: 10)
Thick   Film   ChipResistors; Manufacturer_Part_Number: CRG0805F100K; Vendor: TE Connectivity; Built_By: EMA_UL_Team; SourceLibrary: Tyco_2012-01-31a; Tollerance: 1%; Power: 0.125W; RefDes: RefDes
footprint RES0805_CRG_TYCO_TYC
pins: 1, 2

## 542
designator R?, comment value 542  (hidden comment: 10)
Thick   Film   ChipResistors; Manufacturer_Part_Number: CRG0805F100K; Vendor: TE Connectivity; Built_By: EMA_UL_Team; SourceLibrary: Tyco_2012-01-31a; Tollerance: 1%; Power: 0.125W; RefDes: RefDes
footprint RES0805_CRG_TYCO_TYC
pins: 1, 2

## 549
designator R?, comment value 549  (hidden comment: 10)
Thick   Film   ChipResistors; Manufacturer_Part_Number: CRG0805F100K; Vendor: TE Connectivity; Built_By: EMA_UL_Team; SourceLibrary: Tyco_2012-01-31a; Tollerance: 1%; Power: 0.125W; RefDes: RefDes
footprint RES0805_CRG_TYCO_TYC
pins: 1, 2

## 556
designator R?, comment value 556  (hidden comment: 10)
Thick   Film   ChipResistors; Manufacturer_Part_Number: CRG0805F100K; Vendor: TE Connectivity; Built_By: EMA_UL_Team; SourceLibrary: Tyco_2012-01-31a; Tollerance: 1%; Power: 0.125W; RefDes: RefDes
footprint RES0805_CRG_TYCO_TYC
pins: 1, 2

## 562
designator R?, comment value 562  (hidden comment: 10)
Thick   Film   ChipResistors; Manufacturer_Part_Number: CRG0805F100K; Vendor: TE Connectivity; Built_By: EMA_UL_Team; SourceLibrary: Tyco_2012-01-31a; Tollerance: 1%; Power: 0.125W; RefDes: RefDes
footprint RES0805_CRG_TYCO_TYC
pins: 1, 2

## 569
designator R?, comment value 569  (hidden comment: 10)
Thick   Film   ChipResistors; Manufacturer_Part_Number: CRG0805F100K; Vendor: TE Connectivity; Built_By: EMA_UL_Team; SourceLibrary: Tyco_2012-01-31a; Tollerance: 1%; Power: 0.125W; RefDes: RefDes
footprint RES0805_CRG_TYCO_TYC
pins: 1, 2

## 576
designator R?, comment value 576  (hidden comment: 10)
Thick   Film   ChipResistors; Manufacturer_Part_Number: CRG0805F100K; Vendor: TE Connectivity; Built_By: EMA_UL_Team; SourceLibrary: Tyco_2012-01-31a; Tollerance: 1%; Power: 0.125W; RefDes: RefDes
footprint RES0805_CRG_TYCO_TYC
pins: 1, 2

## 583
designator R?, comment value 583  (hidden comment: 10)
Thick   Film   ChipResistors; Manufacturer_Part_Number: CRG0805F100K; Vendor: TE Connectivity; Built_By: EMA_UL_Team; SourceLibrary: Tyco_2012-01-31a; Tollerance: 1%; Power: 0.125W; RefDes: RefDes
footprint RES0805_CRG_TYCO_TYC
pins: 1, 2

## 590
designator R?, comment value 590  (hidden comment: 10)
Thick   Film   ChipResistors; Manufacturer_Part_Number: CRG0805F100K; Vendor: TE Connectivity; Built_By: EMA_UL_Team; SourceLibrary: Tyco_2012-01-31a; Tollerance: 1%; Power: 0.125W; RefDes: RefDes
footprint RES0805_CRG_TYCO_TYC
pins: 1, 2

## 597
designator R?, comment value 597  (hidden comment: 10)
Thick   Film   ChipResistors; Manufacturer_Part_Number: CRG0805F100K; Vendor: TE Connectivity; Built_By: EMA_UL_Team; SourceLibrary: Tyco_2012-01-31a; Tollerance: 1%; Power: 0.125W; RefDes: RefDes
footprint RES0805_CRG_TYCO_TYC
pins: 1, 2

## 604
designator R?, comment value 604  (hidden comment: 10)
Thick   Film   ChipResistors; Manufacturer_Part_Number: CRG0805F100K; Vendor: TE Connectivity; Built_By: EMA_UL_Team; SourceLibrary: Tyco_2012-01-31a; Tollerance: 1%; Power: 0.125W; RefDes: RefDes
footprint RES0805_CRG_TYCO_TYC
pins: 1, 2

## 612
designator R?, comment value 642  (hidden comment: 10)
Thick   Film   ChipResistors; Manufacturer_Part_Number: CRG0805F100K; Vendor: TE Connectivity; Built_By: EMA_UL_Team; SourceLibrary: Tyco_2012-01-31a; Tollerance: 1%; Power: 0.125W; RefDes: RefDes
footprint RES0805_CRG_TYCO_TYC
pins: 1, 2

## 619
designator R?, comment value 619  (hidden comment: 10)
Thick   Film   ChipResistors; Manufacturer_Part_Number: CRG0805F100K; Vendor: TE Connectivity; Built_By: EMA_UL_Team; SourceLibrary: Tyco_2012-01-31a; Tollerance: 1%; Power: 0.125W; RefDes: RefDes
footprint RES0805_CRG_TYCO_TYC
pins: 1, 2

## 626
designator R?, comment value 626  (hidden comment: 10)
Thick   Film   ChipResistors; Manufacturer_Part_Number: CRG0805F100K; Vendor: TE Connectivity; Built_By: EMA_UL_Team; SourceLibrary: Tyco_2012-01-31a; Tollerance: 1%; Power: 0.125W; RefDes: RefDes
footprint RES0805_CRG_TYCO_TYC
pins: 1, 2

## 634
designator R?, comment value 634  (hidden comment: 10)
Thick   Film   ChipResistors; Manufacturer_Part_Number: CRG0805F100K; Vendor: TE Connectivity; Built_By: EMA_UL_Team; SourceLibrary: Tyco_2012-01-31a; Tollerance: 1%; Power: 0.125W; RefDes: RefDes
footprint RES0805_CRG_TYCO_TYC
pins: 1, 2

## 642
designator R?, comment value 642  (hidden comment: 10)
Thick   Film   ChipResistors; Manufacturer_Part_Number: CRG0805F100K; Vendor: TE Connectivity; Built_By: EMA_UL_Team; SourceLibrary: Tyco_2012-01-31a; Tollerance: 1%; Power: 0.125W; RefDes: RefDes
footprint RES0805_CRG_TYCO_TYC
pins: 1, 2

## 649
designator R?, comment value 649  (hidden comment: 10)
Thick   Film   ChipResistors; Manufacturer_Part_Number: CRG0805F100K; Vendor: TE Connectivity; Built_By: EMA_UL_Team; SourceLibrary: Tyco_2012-01-31a; Tollerance: 1%; Power: 0.125W; RefDes: RefDes
footprint RES0805_CRG_TYCO_TYC
pins: 1, 2

## 657
designator R?, comment value 657  (hidden comment: 10)
Thick   Film   ChipResistors; Manufacturer_Part_Number: CRG0805F100K; Vendor: TE Connectivity; Built_By: EMA_UL_Team; SourceLibrary: Tyco_2012-01-31a; Tollerance: 1%; Power: 0.125W; RefDes: RefDes
footprint RES0805_CRG_TYCO_TYC
pins: 1, 2

## 665
designator R?, comment value 665  (hidden comment: 10)
Thick   Film   ChipResistors; Manufacturer_Part_Number: CRG0805F100K; Vendor: TE Connectivity; Built_By: EMA_UL_Team; SourceLibrary: Tyco_2012-01-31a; Tollerance: 1%; Power: 0.125W; RefDes: RefDes
footprint RES0805_CRG_TYCO_TYC
pins: 1, 2

## 673
designator R?, comment value 673  (hidden comment: 10)
Thick   Film   ChipResistors; Manufacturer_Part_Number: CRG0805F100K; Vendor: TE Connectivity; Built_By: EMA_UL_Team; SourceLibrary: Tyco_2012-01-31a; Tollerance: 1%; Power: 0.125W; RefDes: RefDes
footprint RES0805_CRG_TYCO_TYC
pins: 1, 2

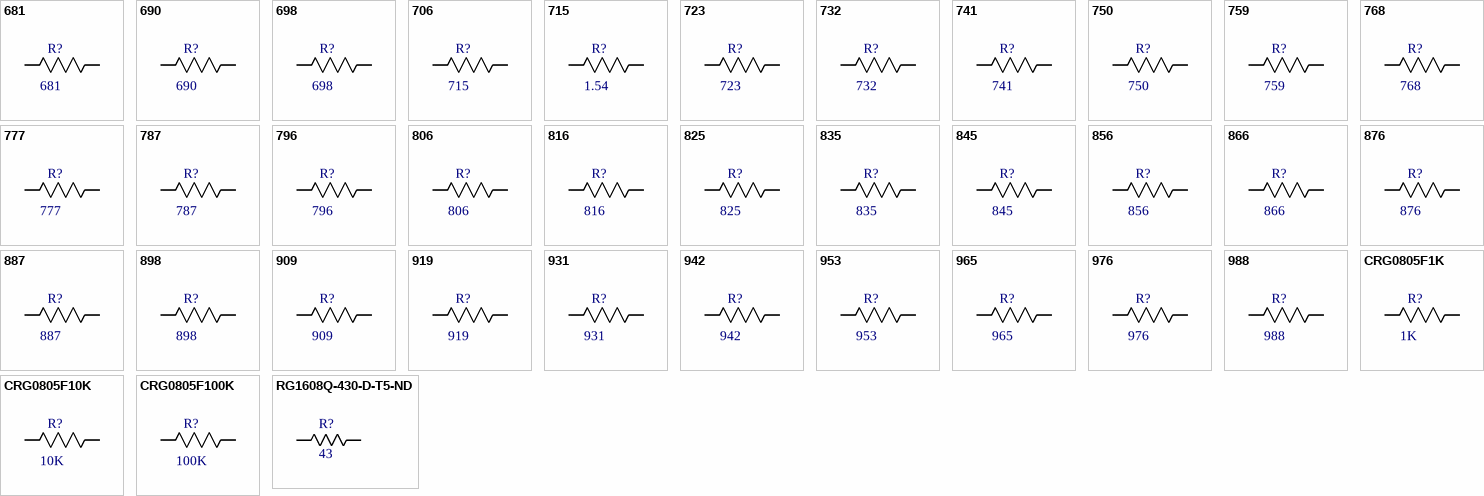
[diagram p4: symbols 681 to RG1608Q-430-D-T5-ND]

## 681
designator R?, comment value 681  (hidden comment: 10)
Thick   Film   ChipResistors; Manufacturer_Part_Number: CRG0805F100K; Vendor: TE Connectivity; Built_By: EMA_UL_Team; SourceLibrary: Tyco_2012-01-31a; Tollerance: 1%; Power: 0.125W; RefDes: RefDes
footprint RES0805_CRG_TYCO_TYC
pins: 1, 2

## 690
designator R?, comment value 690  (hidden comment: 10)
Thick   Film   ChipResistors; Manufacturer_Part_Number: CRG0805F100K; Vendor: TE Connectivity; Built_By: EMA_UL_Team; SourceLibrary: Tyco_2012-01-31a; Tollerance: 1%; Power: 0.125W; RefDes: RefDes
footprint RES0805_CRG_TYCO_TYC
pins: 1, 2

## 698
designator R?, comment value 698  (hidden comment: 10)
Thick   Film   ChipResistors; Manufacturer_Part_Number: CRG0805F100K; Vendor: TE Connectivity; Built_By: EMA_UL_Team; SourceLibrary: Tyco_2012-01-31a; Tollerance: 1%; Power: 0.125W; RefDes: RefDes
footprint RES0805_CRG_TYCO_TYC
pins: 1, 2

## 706
designator R?, comment value 715  (hidden comment: 10)
Thick   Film   ChipResistors; Manufacturer_Part_Number: CRG0805F100K; Vendor: TE Connectivity; Built_By: EMA_UL_Team; SourceLibrary: Tyco_2012-01-31a; Tollerance: 1%; Power: 0.125W; RefDes: RefDes
footprint RES0805_CRG_TYCO_TYC
pins: 1, 2